# Altium schematic symbol library SCH - POWER - SWITCHMODE - TI TPS653853-Q1DCA.SchLib: 1 symbol
Pins are listed as number, name and electrical type; pins without a type are passive.

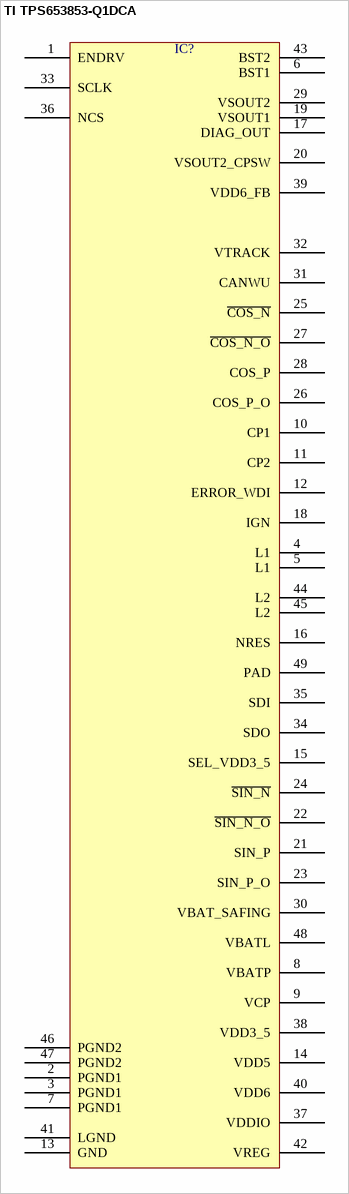
[diagram p0: symbol TI TPS653853-Q1DCA]

## TI TPS653853-Q1DCA
designator IC?  (value not drawn)
pins: 1 ENDRV, 2 PGND1, 3 PGND1, 4 L1, 5 L1, 6 BST1, 7 PGND1, 8 VBATP, 9 VCP, 10 CP1, 11 CP2, 12 ERROR_WDI, 13 GND, 14 VDD5, 15 SEL_VDD3_5, 16 NRES, 17 DIAG_OUT, 18 IGN, 19 VSOUT1, 20 VSOUT2_CPSW, 21 SIN_P, 22 ~{SIN_N_O}, 23 SIN_P_O, 24 ~{SIN_N}, 25 ~{COS_N}, 26 COS_P_O, 27 ~{COS_N_O}, 28 COS_P, 29 VSOUT2, 30 VBAT_SAFING, 31 CANWU, 32 VTRACK, 33 SCLK, 34 SDO, 35 SDI, 36 NCS, 37 VDDIO, 38 VDD3_5, 39 VDD6_FB, 40 VDD6, 41 LGND, 42 VREG, 43 BST2, 44 L2, 45 L2, 46 PGND2, 47 PGND2, 48 VBATL, 49 PAD